# Altium footprint library Fu的元件封装库.PcbLib: 45 footprints (part 3 of 3)
Each footprint in its own frame and in the unit in brackets; x right, y up, seen from the top. Pads: shape width x height; smd on the part's side, far side on the other; paste and mask are expansions set on the pad; w line width, h text height; cw(c..) or ccw(c..) is an arc to the next point about the centre after c.
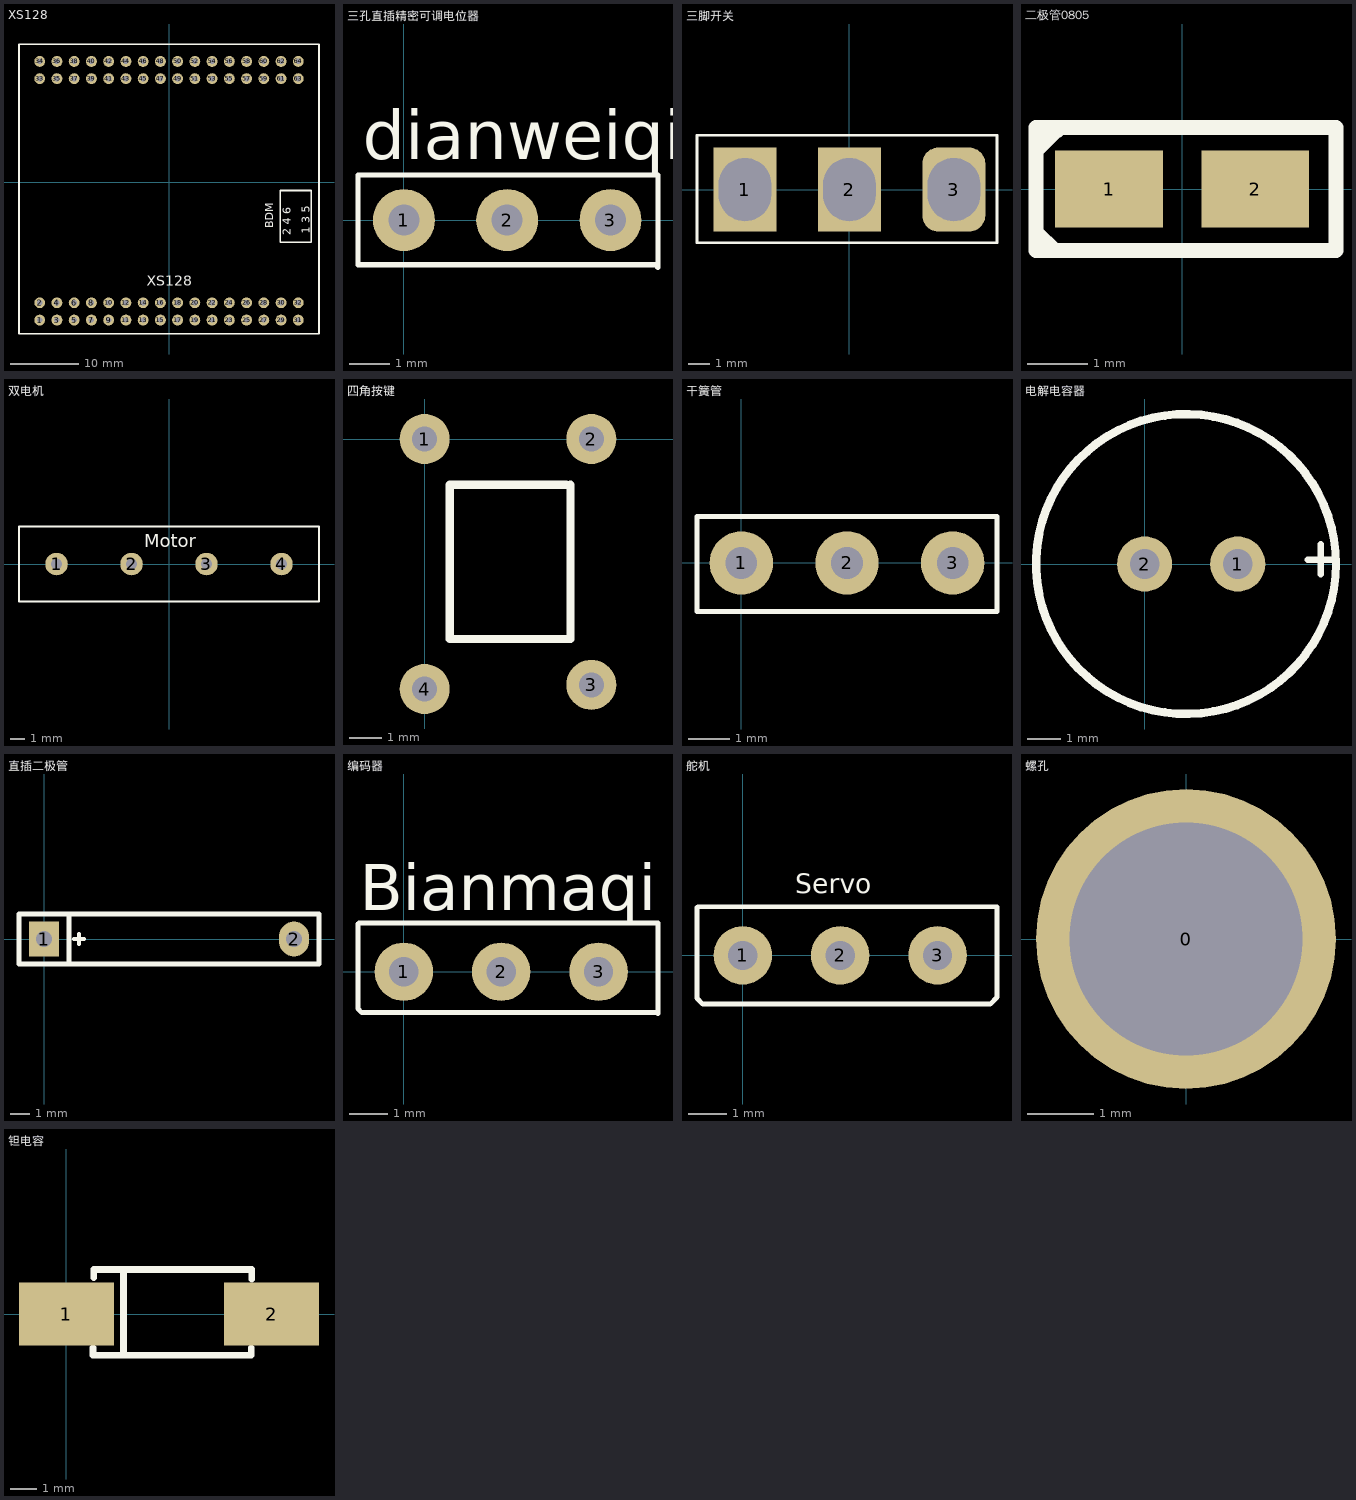
[diagram p2: the footprints below, top view; thin cyan lines are the x and y axes]

## XS128 [mm]
pads (64):
  round 1.6 hole 0.8: 1(-19.05,-20.32) 2(-19.05,-17.78) 3(-16.51,-20.32) 4(-16.51,-17.78) 5(-13.97,-20.32) 6(-13.97,-17.78) 7(-11.43,-20.32) 8(-11.43,-17.78) 9(-8.89,-20.32) 10(-8.89,-17.78) 11(-6.35,-20.32) 12(-6.35,-17.78) 13(-3.81,-20.32) 14(-3.81,-17.78) 15(-1.27,-20.32) 16(-1.27,-17.78) 17(1.27,-20.32) 18(1.27,-17.78) 19(3.81,-20.32) 20(3.81,-17.78) 21(6.35,-20.32) 22(6.35,-17.78) 23(8.89,-20.32) 24(8.89,-17.78) 25(11.43,-20.32) 26(11.43,-17.78) 27(13.97,-20.32) 28(13.97,-17.78) 29(16.51,-20.32) 30(16.51,-17.78) 31(19.05,-20.32) 32(19.05,-17.78) 33(-19.05,15.24) 34(-19.05,17.78) 35(-16.51,15.24) 36(-16.51,17.78) 37(-13.97,15.24) 38(-13.97,17.78) 39(-11.43,15.24) 40(-11.43,17.78) 41(-8.89,15.24) 42(-8.89,17.78) 43(-6.35,15.24) 44(-6.35,17.78) 45(-3.81,15.24) 46(-3.81,17.78) 47(-1.27,15.24) 48(-1.27,17.78) 49(1.27,15.24) 50(1.27,17.78) 51(3.81,15.24) 52(3.81,17.78) 53(6.35,15.24) 54(6.35,17.78) 55(8.89,15.24) 56(8.89,17.78) 57(11.43,15.24) 58(11.43,17.78) 59(13.97,15.24) 60(13.97,17.78) 61(16.51,15.24) 62(16.51,17.78) 63(19.05,15.24) 64(19.05,17.78)
Top Overlay:
  lines w0.254: -22.098,-22.352 22.098,-22.352 22.098,20.32 -22.098,20.32 -22.098,-20.32 -22.098,-22.352 ; 16.383,-8.865 20.955,-8.865 20.955,-1.245 16.383,-1.245 16.383,-8.865
  text "XS128" at -3.251,-15.24 h1.52
  text "BDM" at 15.367,-6.833 h1.2
  text "1 3 5" at 20.701,-7.595 h1.2
  text "2 4 6" at 17.907,-7.849 h1.2

## 三孔直插精密可调电位器 [mil]
pads (3):
  round 60 hole 30: 1(0,0) 2(100,0) 3(200,0)
Top Overlay:
  lines w5: -44.49,-43.31 -44.49,43.7 246,43.7 246,-46.06 243.24,-43.31 153.94,-43.31 -44.49,-43.31
  text "dianweiqi" at -40,59 h47.24

## 三脚开关 [mm]
pads (3):
  rect 3x4 hole 2.5 slot 3 at 90 deg: 1(-4.978,0) 2(0,0)
  rrect50% 3x4 hole 2.5 slot 3 at 90 deg: 3(4.978,0)
Top Overlay:
  lines w0.127: -7.264,-2.54 7.036,-2.54 7.036,2.591 -7.264,2.591 -7.264,-2.54

## 二极管0805 [mil]
pads (2):
  rect 70x50 smd: 1(-47.5,0) 2(47.5,0)
Top Overlay:
  lines w10: -95,25 -82,38 -81,38 -81,40 ; -83,-40 -94.88,-28.12 -95,-28.12 ; -95,-28.12 -95,-4.38 -95,7.5 -95,40 100,40 100,-40 -95,-40 -95,-28.12

## 双电机 [mil]
pads (4):
  round 60 hole 30: 1(-300,0) 2(-100,0) 3(100,0) 4(300,0)
Top Overlay:
  lines w5: -400,-100 -400,100 400,100 400,-100 -400,-100
  text "Motor" at -66,45 h35

## 四角按键 [mil]
pads (4):
  round 60 hole 30: 1(0,0) 2(200,0) 3(200,-295) 4(0,-300)
Top Overlay:
  lines w10: 170,-55 30,-55 30,-240 175,-240 175,-55

## 干簧管 [mil]
pads (3):
  round 60 hole 30: 1(0,0) 2(100,0) 3(200,0)
Top Overlay:
  lines w5: -42,-46 242,-46 242,44 -42,44 -42,-46

## 电解电容器 [mil]
pads (2):
  round 65 hole 35: 1(110,0) 2(0,0)
Top Overlay:
  circle w10: c48.88,0 r177.17
  lines w7.87: 193,5 223,5 ; 208,-12 208,23

## 直插二极管 [mil]
pads (2):
  rect 60x70 hole 32: 1(0,0)
  oval 60x70 hole 32: 2(500,0)
Top Overlay:
  lines w7.87: 60,0 80,0 ; 70,-10 70,10
  lines w10: 50,-50 50,50 ; -50,-50 -50,50 550,50 550,-50 -50,-50

## 编码器 [mil]
pads (3):
  round 60 hole 30: 1(0,0) 2(100,0) 3(200,0)
Top Overlay:
  lines w5: -47,-38 -43,-42 260,-42 261,-43 261,50 -39,50 -46,50 -47,49 -47,-38
  text "Bianmaqi" at -45,63 h47.24

## 舵机 [mil]
pads (3):
  round 60 hole 30: 1(0,0) 2(100,0) 3(200,0)
Top Overlay:
  lines w5: -47,-44 -47,49 -46,50 -39,50 261,50 261,-43 254,-50 -41,-50 -47,-44
  text "Servo" at 54,64 h19.68

## 螺孔 [mm]
pads (1):
  round 4.5 hole 3.5: 0(0,0)

## 钽电容 [mm]
height 2.6
pads (2):
  rect 3.6x2.4 smd: 1(0,0) 2(7.776,0)
Top Overlay:
  lines w0.254: 1.007,-1.279 1.007,-1.562 7.001,-1.562 7.001,-1.279 ; 1.032,1.381 1.032,1.689 7.027,1.689 7.027,1.33 ; 2.159,-1.524 2.159,1.651